# EAGLE library part HEADER-2X3 (library microbuilder)
PIN HEADER
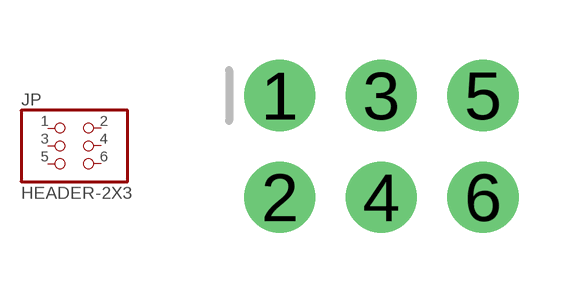
[diagram p158: symbol with the pads of 2X03_ROUND_70MIL; footprint 2X03_ROUND_70MIL]

Designator prefix JP

## HEADER-2X3  [2X03_ROUND_70MIL]
1  1  pas
2  2  pas
3  3  pas
4  4  pas
5  5  pas
6  6  pas

## Footprint 2X03_ROUND_70MIL (pad centres in mm)
drill 1 pad 1.778: 1 -2.54,1.27; 2 -2.54,-1.27; 3 0,1.27; 4 0,-1.27; 5 2.54,1.27; 6 2.54,-1.27